# EAGLE library part DT13-48PABCD-R015 (library FSAE Electric)
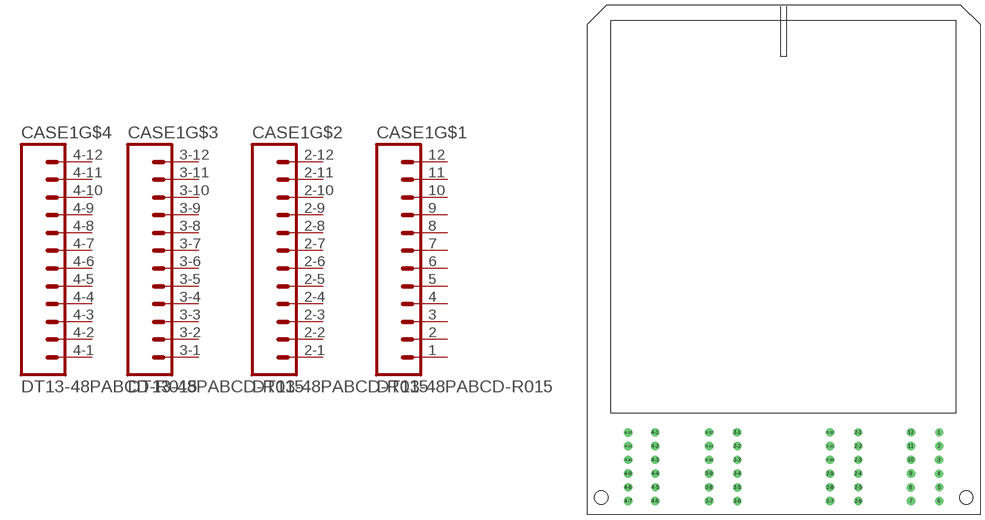
[diagram p17: symbol with the pads of DT13-48PABCD-R015; footprint DT13-48PABCD-R015]

Designator prefix CASE1; gates G$1=M12 G$2=M12 G$3=M12 G$4=M12

## DT13-48PABCD-R015  [DT13-48PABCD-R015]
1  G$1:1  pas
2  G$1:2  pas
2-1  G$2:1  pas
2-2  G$2:2  pas
2-3  G$2:3  pas
2-4  G$2:4  pas
2-5  G$2:5  pas
2-6  G$2:6  pas
2-7  G$2:7  pas
2-8  G$2:8  pas
2-9  G$2:9  pas
2-10  G$2:10  pas
2-11  G$2:11  pas
2-12  G$2:12  pas
3  G$1:3  pas
3-1  G$3:1  pas
3-2  G$3:2  pas
3-3  G$3:3  pas
3-4  G$3:4  pas
3-5  G$3:5  pas
3-6  G$3:6  pas
3-7  G$3:7  pas
3-8  G$3:8  pas
3-9  G$3:9  pas
3-10  G$3:10  pas
3-11  G$3:11  pas
3-12  G$3:12  pas
4  G$1:4  pas
4-1  G$4:1  pas
4-2  G$4:2  pas
4-3  G$4:3  pas
4-4  G$4:4  pas
4-5  G$4:5  pas
4-6  G$4:6  pas
4-7  G$4:7  pas
4-8  G$4:8  pas
4-9  G$4:9  pas
4-10  G$4:10  pas
4-11  G$4:11  pas
4-12  G$4:12  pas
5  G$1:5  pas
6  G$1:6  pas
7  G$1:7  pas
8  G$1:8  pas
9  G$1:9  pas
10  G$1:10  pas
11  G$1:11  pas
12  G$1:12  pas

## Footprint DT13-48PABCD-R015 (pad centres in mm)
drill 1.778: 1 50.292,26.67; 2 50.317,22.25; 2-1 24.13,26.67; 2-2 24.13,22.225; 2-3 24.105,17.78; 2-4 24.13,13.335; 2-5 24.155,8.915; 2-6 24.155,4.445; 2-7 15.011,4.47; 2-8 15.011,8.89; 2-9 15.011,13.31; 2-10 15.011,17.805; 2-11 15.011,22.225; 2-12 15.037,26.67; 3 50.267,17.78; 3-1 -15.037,26.695; 3-2 -15.011,22.225; 3-3 -15.011,17.78; 3-4 -14.986,13.36; 3-5 -15.011,8.865; 3-6 -15.011,4.445; 3-7 -24.105,4.47; 3-8 -24.13,8.89; 3-9 -24.105,13.36; 3-10 -24.13,17.78; 3-11 -24.105,22.25; 3-12 -24.13,26.67; 4 50.267,13.31; 4-1 -41.529,26.67; 4-2 -41.529,22.225; 4-3 -41.529,17.78; 4-4 -41.504,13.36; 4-5 -41.504,8.915; 4-6 -41.529,4.47; 4-7 -50.292,4.445; 4-8 -50.292,8.89; 4-9 -50.292,13.335; 4-10 -50.292,17.78; 4-11 -50.292,22.225; 4-12 -50.292,26.645; 5 50.292,8.89; 6 50.292,4.47; 7 41.173,4.445; 8 41.148,8.865; 9 41.173,13.36; 10 41.173,17.805; 11 41.173,22.225; 12 41.173,26.695
hole 4.318 at -59.055,5.588
hole 4.318 at 59.055,5.588